# Altium integrated library Relay_Library.IntLib: 8 symbols
Pins are listed as number, name and electrical type; pins without a type are passive.

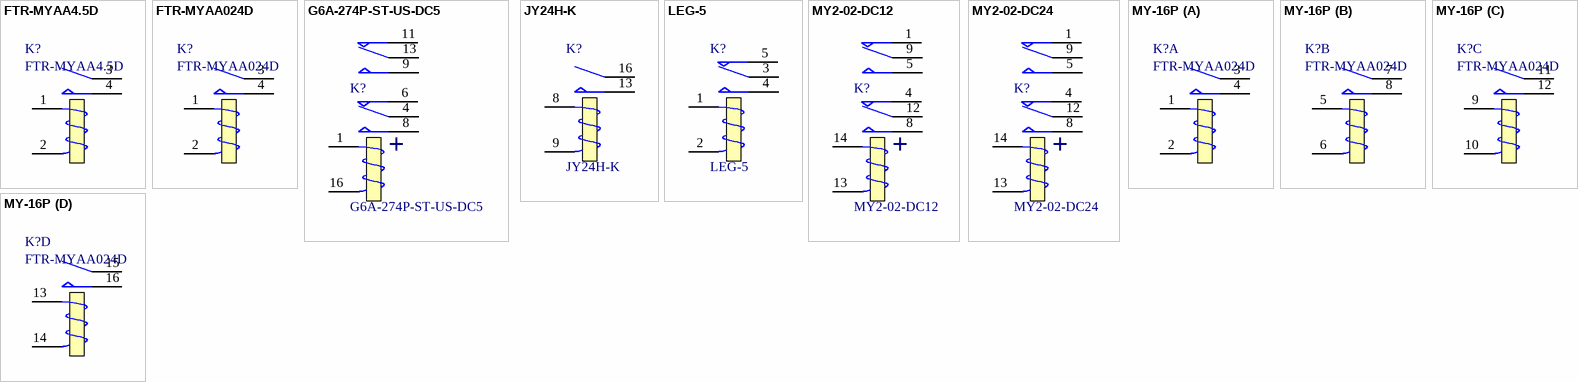
[diagram p0: symbols FTR-MYAA4.5D to MY-16P]

## FTR-MYAA4.5D
designator K?
通用繼電器 POWER; 製造商: Fujitsu; 單價: 88.48; 代理商: mouser; 參考網站: http://www.mouser.tw/ProductDetail/Fujitsu/FTR-MYAA45D/?qs=%2fha2pyFaduh7xeJ2hAut4S8iu8dn1TBcV6GRpdWLewc%3d; 資料手冊: http://www.mouser.com/ds/2/164/ftr-my-19656.pdf
footprint FTR-MYAA024D (長 20mm 寬 9.8mm 高12.8mm)
pins: 1 T1, 2 T2, 3 COM, 4 ON

## FTR-MYAA024D
designator K?
通用繼電器 POWER; 製造商: Fujitsu; 代理商: mouser; 單價: 84.56; 參考網站: http://www.mouser.tw/ProductDetail/Fujitsu/FTR-MYAA024D/?qs=%2fha2pyFaduh7xeJ2hAut4YnSRKSOlHNB8uox8Dj90sQwpT8v9mJZjw%3d%3d; 資料手冊: http://www.mouser.com/ds/2/164/ftr-my-19656.pdf
footprint FTR-MYAA024D (長 20mm 寬 9.8mm 高12.8mm)
pins: 1 T1, 2 T2, 3 COM, 4 ON

## G6A-274P-ST-US-DC5
designator K?
低訊號繼電器 - PCB ThruHole NonLatching DPDT 5VDC 200mW 2A; 製造商: Omron Electronics; 代理商: mouser; 單價: 188.39; 資料手冊: http://www.mouser.com/ds/2/307/G6A_0911-4215.pdf; 參考網站: http://www.mouser.tw/ProductDetail/Omron-Electronics/G6A-274P-ST-US-DC5/?qs=CX134%252bdLMDGXaWOzBMq1xg%3d%3d
footprint G6A-274P-ST-US-DC5
pins: 1 T1, 4 COM, 6 PIN1, 8 PIN4, 9 PIN4, 11 PIN1, 13 COM, 16 T2
text: +

## JY24H-K
designator K?
通用繼電器 Power 5A 24VDC; 製造商: Fujitsu; 代理商: mouser; 單價: 106.32; 資料手冊: http://www.mouser.com/ds/2/164/jy-15460.pdf; 參考網站: http://www.mouser.tw/ProductDetail/Fujitsu/JY-24H-K/?qs=%2fha2pyFadugGNd8Odv5rrDqmxKiV3fVimO4endxknLQ%3d
footprint JY-Type (長 20mm 寬 9.8mm 高12.8mm)
pins: 8 T1, 9 T2, 13, 16

## LEG-5
designator K?
Relay: electromagnetic; SPDT; Ucoil:5VDC; 10A/120VAC; 10A/24VDC; 製造商: RAYEX; 代理商: 勝特力; 資料手冊: http://www.punchlight.com/files/relayLEG-5_datasheet.pdf?PHPSESSID=b74e7ea0c06bd20c0a795c669e2ca461; 參考網站: http://www.100y.com.tw/product/3604.htm
footprint LEG-5
pins: 1 T1, 2 T2, 3 COM, 4 PIN4, 5 PIN1

## MY2-02-DC12
designator K?
通用繼電器 RELAY; 製造商: Omron Automation and Safety; 單價: 697.17; 代理商: mouser; 資料手冊: http://www.mouser.com/ds/2/307/MY4-02-272832.pdf; 參考網站: http://www.mouser.tw/ProductDetail/Omron/MY2-02-DC12/?qs=%2fha2pyFaduh4drsd3o8eXJtif1x0nccSFRIdrVi%252bKgSFNiy8J8cB2g%3d%3d
footprint MY2-02
pins: 1 PIN1, 4 PIN1, 5 PIN4, 8 PIN4, 9 COM, 12 COM, 13 T2, 14 T1
text: +

## MY2-02-DC24
designator K?
通用繼電器 RELAY; 製造商: Omron Automation and Safety; 單價: 245.85; 代理商: mouser; 資料手冊: http://www.mouser.com/ds/2/307/MY4-02-272832.pdf; 參考網站: http://www.mouser.tw/ProductDetail/Omron/MY2F-DC24/?qs=%2fha2pyFaduhiGAt%2fAG3wmbR17P2iADfI0j4TIKKw4Zk%3d
footprint MY2-02
pins: 1 PIN1, 4 PIN1, 5 PIN4, 8 PIN4, 9 COM, 12 COM, 13 T2, 14 T1
text: +

## MY-16P
designator K?, comment FTR-MYAA024D
FTR-MYAA024D * 4加上裝置座*1。; 單價: 338.24; 代理商: 詳盈電機,mouser; 製造商: Fujitsu; 參考網站: http://www.shyangyng.com/eyp/front/bin/ptdetail.phtml?Part=R044&Rcg=377.0; 參考網站: http://www.mouser.tw/ProductDetail/Fujitsu/FTR-MYAA024D/?qs=%2fha2pyFaduh7xeJ2hAut4YnSRKSOlHNB8uox8Dj90sQwpT8v9mJZjw%3d%3d; 資料手冊: http://www.mouser.com/ds/2/164/ftr-my-19656.pdf
footprint MY-16P
part A pins: 1 T1, 2 T2, 3 COM, 4 ON
part B pins: 5 T1, 6 T2, 7 COM, 8 ON
part C pins: 9 T, 10 T2, 11 COM, 12 ON
part D pins: 13 T1, 14 T2, 15 COM, 16 ON